# EAGLE library part MPM3630GQV-P (library MPM3630)
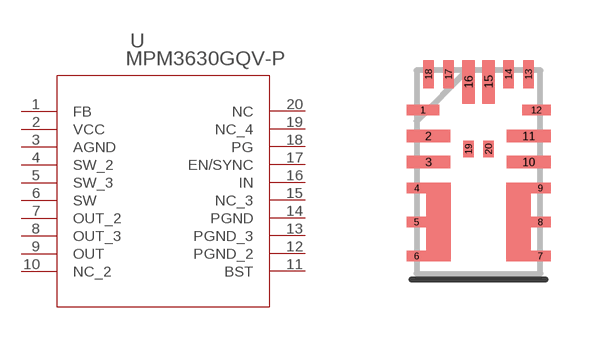
[diagram p0: symbol with the pads of QFN3P0X5P0X1P6_MPM3630_MNP; footprint QFN3P0X5P0X1P6_MPM3630_MNP]

Designator prefix U

## MPM3630GQV-P (COPYRIGHT: Copyright (C) 2024 Ultra Librarian. All rights reserved.; MANUFACTURER_PART_NUMBER: MPM3630GQV-P; MFR_NAME: Monolithic Power Systems)  [QFN3P0X5P0X1P6_MPM3630_MNP]
1  FB  in
2  VCC  pwr
3  AGND  pas
4  SW_2  out
5  SW_3  out
6  SW  out
7  OUT_2  out
8  OUT_3  out
9  OUT  out
10  NC_2  nc
11  BST  pas
12  PGND_2  pas
13  PGND_3  pas
14  PGND  pas
15  NC_3  nc
16  IN  pwr
17  EN/SYNC  pas
18  PG  pas
19  NC_4  nc
20  NC  nc

## Footprint QFN3P0X5P0X1P6_MPM3630_MNP (pad centres in mm)
smd 0.813 x 0.254: 1 -1.394,1.55
smd 1.092 x 0.305: 2 -1.254,0.9; 3 -1.254,0.25; 10 1.254,0.25; 11 1.254,0.9
smd 0.508 x 0.254: 4 -1.546,-0.4; 5 -1.546,-1.25; 6 -1.546,-2.1; 7 1.546,-2.1; 8 1.546,-1.25; 9 1.546,-0.4
smd 0.711 x 0.254: 12 1.444,1.55
smd 0.254 x 0.711: 13 1.25,2.444; 14 0.75,2.444; 17 -0.75,2.444; 18 -1.25,2.444
smd 0.305 x 1.092: 15 0.25,2.254; 16 -0.25,2.254
smd 0.254 x 0.406: 19 -0.25,0.575; 20 0.25,0.575